# EAGLE library part ADS4126IRGZT (library SamacSys_Parts)
Analog to Digital Converters - ADC 12B 160MSPS Low Pwr ADC Source: Datasheet <http://www.ti.com/lit/ds/symlink/ads4126.pdf>
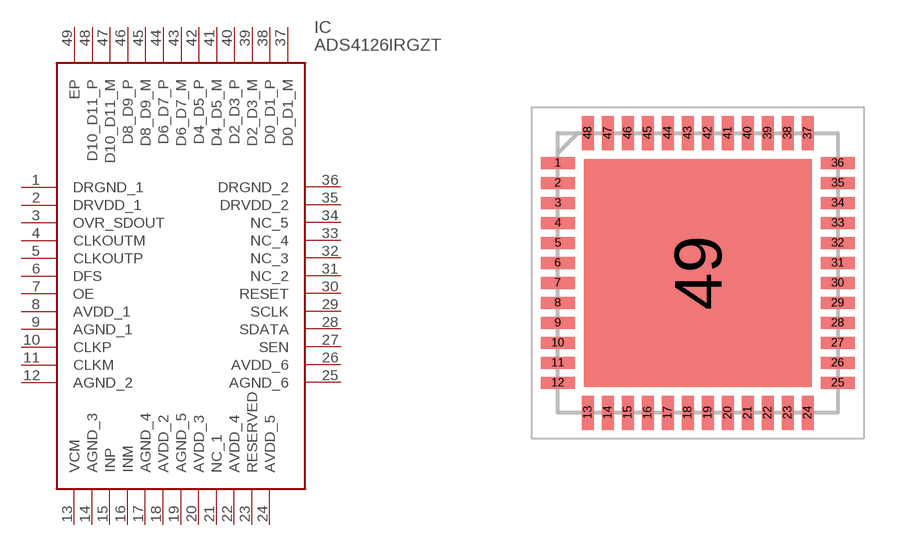
[diagram p2: symbol with the pads of QFN50P700X700X100-49N; footprint QFN50P700X700X100-49N]

Designator prefix IC

## ADS4126IRGZT (DESCRIPTION: Analog to Digital Converters - ADC 12B 160MSPS Low Pwr ADC; HEIGHT: 1mm; MANUFACTURER_NAME: Texas Instruments; MANUFACTURER_PART_NUMBER: ADS4126IRGZT; MOUSER_PART_NUMBER: 595-ADS4126IRGZT; MOUSER_PRICE-STOCK: https://www.mouser.com/Search/Refine.aspx?Keyword=595-ADS4126IRGZT)  [QFN50P700X700X100-49N]
1  DRGND_1  pwr
2  DRVDD_1  pwr
3  OVR_SDOUT  out
4  CLKOUTM  out
5  CLKOUTP  out
6  DFS
7  OE
8  AVDD_1  pwr
9  AGND_1  pwr
10  CLKP  in
11  CLKM  in
12  AGND_2  pwr
13  VCM
14  AGND_3  pwr
15  INP  in
16  INM  in
17  AGND_4  pwr
18  AVDD_2  pwr
19  AGND_5  pwr
20  AVDD_3  pwr
21  NC_1
22  AVDD_4  pwr
23  RESERVED
24  AVDD_5  pwr
25  AGND_6  pwr
26  AVDD_6  pwr
27  SEN
28  SDATA
29  SCLK  in
30  RESET
31  NC_2
32  NC_3
33  NC_4
34  NC_5
35  DRVDD_2  pwr
36  DRGND_2  pwr
37  D0_D1_M
38  D0_D1_P
39  D2_D3_M
40  D2_D3_P
41  D4_D5_M
42  D4_D5_P
43  D6_D7_M
44  D6_D7_P
45  D8_D9_M
46  D8_D9_P
47  D10_D11_M
48  D10_D11_P
49  EP

## Footprint QFN50P700X700X100-49N (pad centres in mm)
RGZ (S-PVQFN-N48)_2
smd 0.85 x 0.3: 1 -3.5,2.75; 2 -3.5,2.25; 3 -3.5,1.75; 4 -3.5,1.25; 5 -3.5,0.75; 6 -3.5,0.25; 7 -3.5,-0.25; 8 -3.5,-0.75; 9 -3.5,-1.25; 10 -3.5,-1.75; 11 -3.5,-2.25; 12 -3.5,-2.75; 25 3.5,-2.75; 26 3.5,-2.25; 27 3.5,-1.75; 28 3.5,-1.25; 29 3.5,-0.75; 30 3.5,-0.25; 31 3.5,0.25; 32 3.5,0.75; 33 3.5,1.25; 34 3.5,1.75; 35 3.5,2.25; 36 3.5,2.75
smd 0.3 x 0.85: 13 -2.75,-3.5; 14 -2.25,-3.5; 15 -1.75,-3.5; 16 -1.25,-3.5; 17 -0.75,-3.5; 18 -0.25,-3.5; 19 0.25,-3.5; 20 0.75,-3.5; 21 1.25,-3.5; 22 1.75,-3.5; 23 2.25,-3.5; 24 2.75,-3.5; 37 2.75,3.5; 38 2.25,3.5; 39 1.75,3.5; 40 1.25,3.5; 41 0.75,3.5; 42 0.25,3.5; 43 -0.25,3.5; 44 -0.75,3.5; 45 -1.25,3.5; 46 -1.75,3.5; 47 -2.25,3.5; 48 -2.75,3.5
smd 5.7 x 5.7: 49 0,0